# EAGLE library part MINI-USB_B5 (library dl9sec_public)
KYCON Mini-USB Type B SMT, 5-pins 4 pins for shield
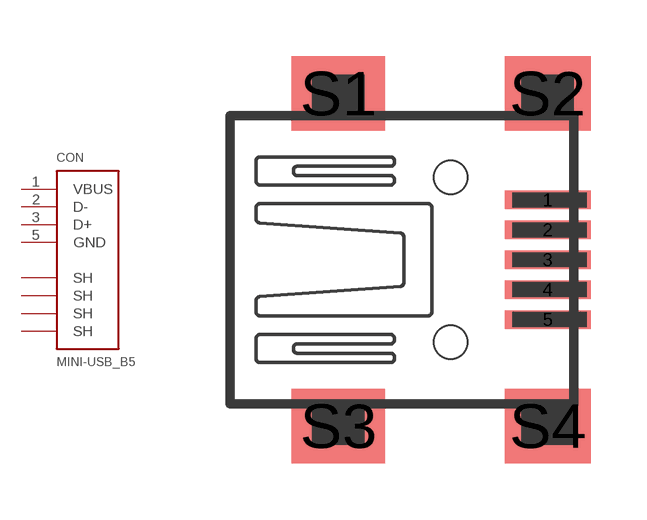
[diagram p8: symbol with the pads of MINIUSB_B5; footprint MINIUSB_B5]

Designator prefix CON

## MINI-USB_B5  [MINIUSB_B5]
1  VBUS  sup
2  D-
3  D+
5  GND  pwr
S1  SH  pas
S2  SH  pas
S3  SH  pas
S4  SH  pas

## Footprint MINIUSB_B5 (pad centres in mm)
Mini-USB Type B, 5 pins KYCON KMB-SMT-5S-S-30TR
smd 2.3 x 0.5: 1 7.85,1.6; 2 7.85,0.8; 3 7.85,0; 4 7.85,-0.8; 5 7.85,-1.6
smd 2.5 x 2: S1 2.25,4.45; S3 2.25,-4.45
smd 2.3 x 2: S2 7.85,4.45; S4 7.85,-4.45
hole 0.9 at 5.25,2.2
hole 0.9 at 5.25,-2.2